# EAGLE library part ADP7102* (library SmartMDC)
ANALOG DEVICES 20 V, 300 mA, Low Noise, CMOS LDO
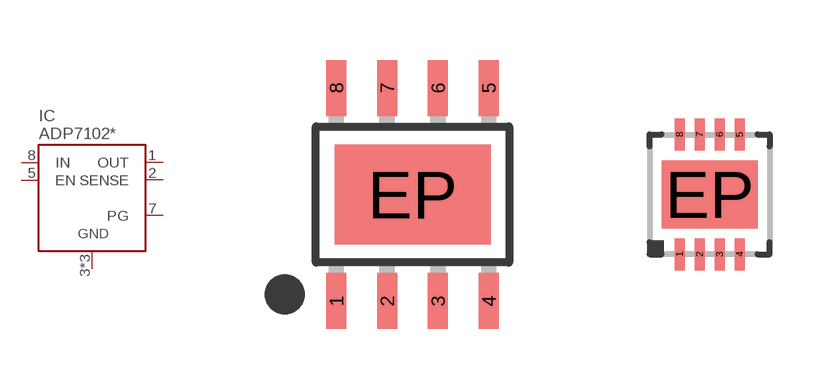
[diagram p17: symbol with the pads of SOIC-8-PAD; footprints SOIC-8-PAD, LFCSP8]

Designator prefix IC

## ADP7102ARDZ-1.5-R7  [SOIC-8-PAD]
1  OUT  pwr
2  SENSE  in
3  GND  pwr
5  EN  in
6  GND  pwr
7  PG  oc
8  IN  pwr
EP  GND  pwr

## ADP7102ARDZ-1.8-R7  [SOIC-8-PAD]
Pads as for SOIC-8-PAD

## ADP7102ARDZ-2.5-R7  [SOIC-8-PAD]
Pads as for SOIC-8-PAD

## ADP7102ARDZ-3.0-R7  [SOIC-8-PAD]
Pads as for SOIC-8-PAD

## ADP7102ARDZ-3.3-R7  [SOIC-8-PAD]
Pads as for SOIC-8-PAD

## ADP7102ARDZ-5.0-R7  [SOIC-8-PAD]
Pads as for SOIC-8-PAD

## ADP7102ARDZ-9.0-R7  [SOIC-8-PAD]
Pads as for SOIC-8-PAD

## ADP7102ACPZ-1.5-R7  [LFCSP8]
Pads as for SOIC-8-PAD

## ADP7102ACPZ-1.8-R7  [LFCSP8]
Pads as for SOIC-8-PAD

## ADP7102ACPZ-2.5-R7  [LFCSP8]
Pads as for SOIC-8-PAD

## ADP7102ACPZ-3.0-R7  [LFCSP8]
Pads as for SOIC-8-PAD

## ADP7102ACPZ-3.3-R7  [LFCSP8]
Pads as for SOIC-8-PAD

## ADP7102ACPZ-5.0-R7  [LFCSP8]
Pads as for SOIC-8-PAD

## ADP7102ACPZ-9.0-R7  [LFCSP8]
Pads as for SOIC-8-PAD

## Footprint SOIC-8-PAD (pad centres in mm)
smd 0.5 x 1.4: 1 -1.905,-2.667; 2 -0.635,-2.667; 3 0.635,-2.667; 4 1.905,-2.667; 5 1.905,2.667; 6 0.635,2.667; 7 -0.635,2.667; 8 -1.905,2.667
smd 3.9 x 2.5: EP 0,0

## Footprint LFCSP8 (pad centres in mm)
smd 0.25 x 0.8: 1 -0.75,-1.5; 2 -0.25,-1.5; 3 0.25,-1.5; 4 0.75,-1.5; 5 0.75,1.5; 6 0.25,1.5; 7 -0.25,1.5; 8 -0.75,1.5
smd 2.4 x 1.7: EP 0,0